# EAGLE library part PCM2912A (library PowerTechLIB2)
PowerTech IC used by PowerTech PCM2912A Keywords Mic preamp; usb audio interface;
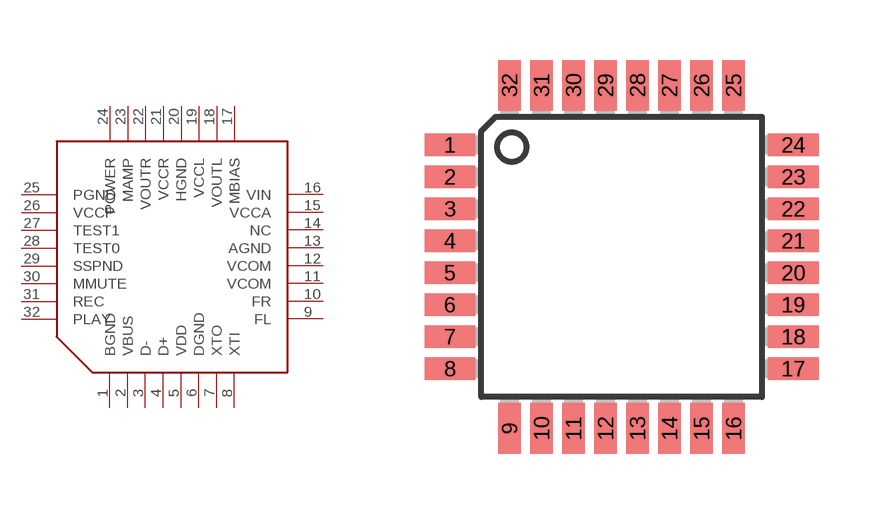
[diagram p10: symbol with the pads of TQFP32-08; footprint TQFP32-08]

Designator prefix -

## PCM2912A  [TQFP32-08]
1  BGND
2  VBUS
3  D-
4  D+
5  VDD
6  DGND
7  XTO
8  XTI
9  FL
10  FR
11  VCOM
12  VCOM
13  AGND
14  NC
15  VCCA
16  VIN
17  MBIAS
18  VOUTL
19  VCCL
20  HGND
21  VCCR
22  VOUTR
23  MAMP
24  POWER
25  PGND
26  VCCP
27  TEST1
28  TEST0
29  SSPND
30  MMUTE
31  REC
32  PLAY

## Footprint TQFP32-08 (pad centres in mm)
Thin Plasic Quad Flat Package Grid 0.8 mm
smd 1.27 x 0.559: 1 -4.293,2.8; 2 -4.293,2; 3 -4.293,1.2; 4 -4.293,0.4; 5 -4.293,-0.4; 6 -4.293,-1.2; 7 -4.293,-2; 8 -4.293,-2.8; 17 4.293,-2.8; 18 4.293,-2; 19 4.293,-1.2; 20 4.293,-0.4; 21 4.293,0.4; 22 4.293,1.2; 23 4.293,2; 24 4.293,2.8
smd 0.559 x 1.27: 9 -2.8,-4.293; 10 -2,-4.293; 11 -1.2,-4.293; 12 -0.4,-4.293; 13 0.4,-4.293; 14 1.2,-4.293; 15 2,-4.293; 16 2.8,-4.293; 25 2.8,4.293; 26 2,4.293; 27 1.2,4.293; 28 0.4,4.293; 29 -0.4,4.293; 30 -1.2,4.293; 31 -2,4.293; 32 -2.8,4.293